# Altium integrated library XL6009.IntLib: 1 symbol
Pins are listed as number, name and electrical type; pins without a type are passive.

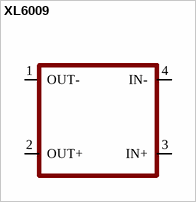
[diagram p0: symbol XL6009]

## XL6009
designator ?
footprint XL6009
pins: 1 OUT-, 2 OUT+, 3 IN+, 4 IN-